# Altium footprint library MLACHL_L.PCBLIB: 254 footprints (part 12 of 16)
Each footprint in its own frame and in the unit in brackets; x right, y up, seen from the top. Pads: shape width x height; smd on the part's side, far side on the other; paste and mask are expansions set on the pad; w line width, h text height; cw(c..) or ccw(c..) is an arc to the next point about the centre after c.
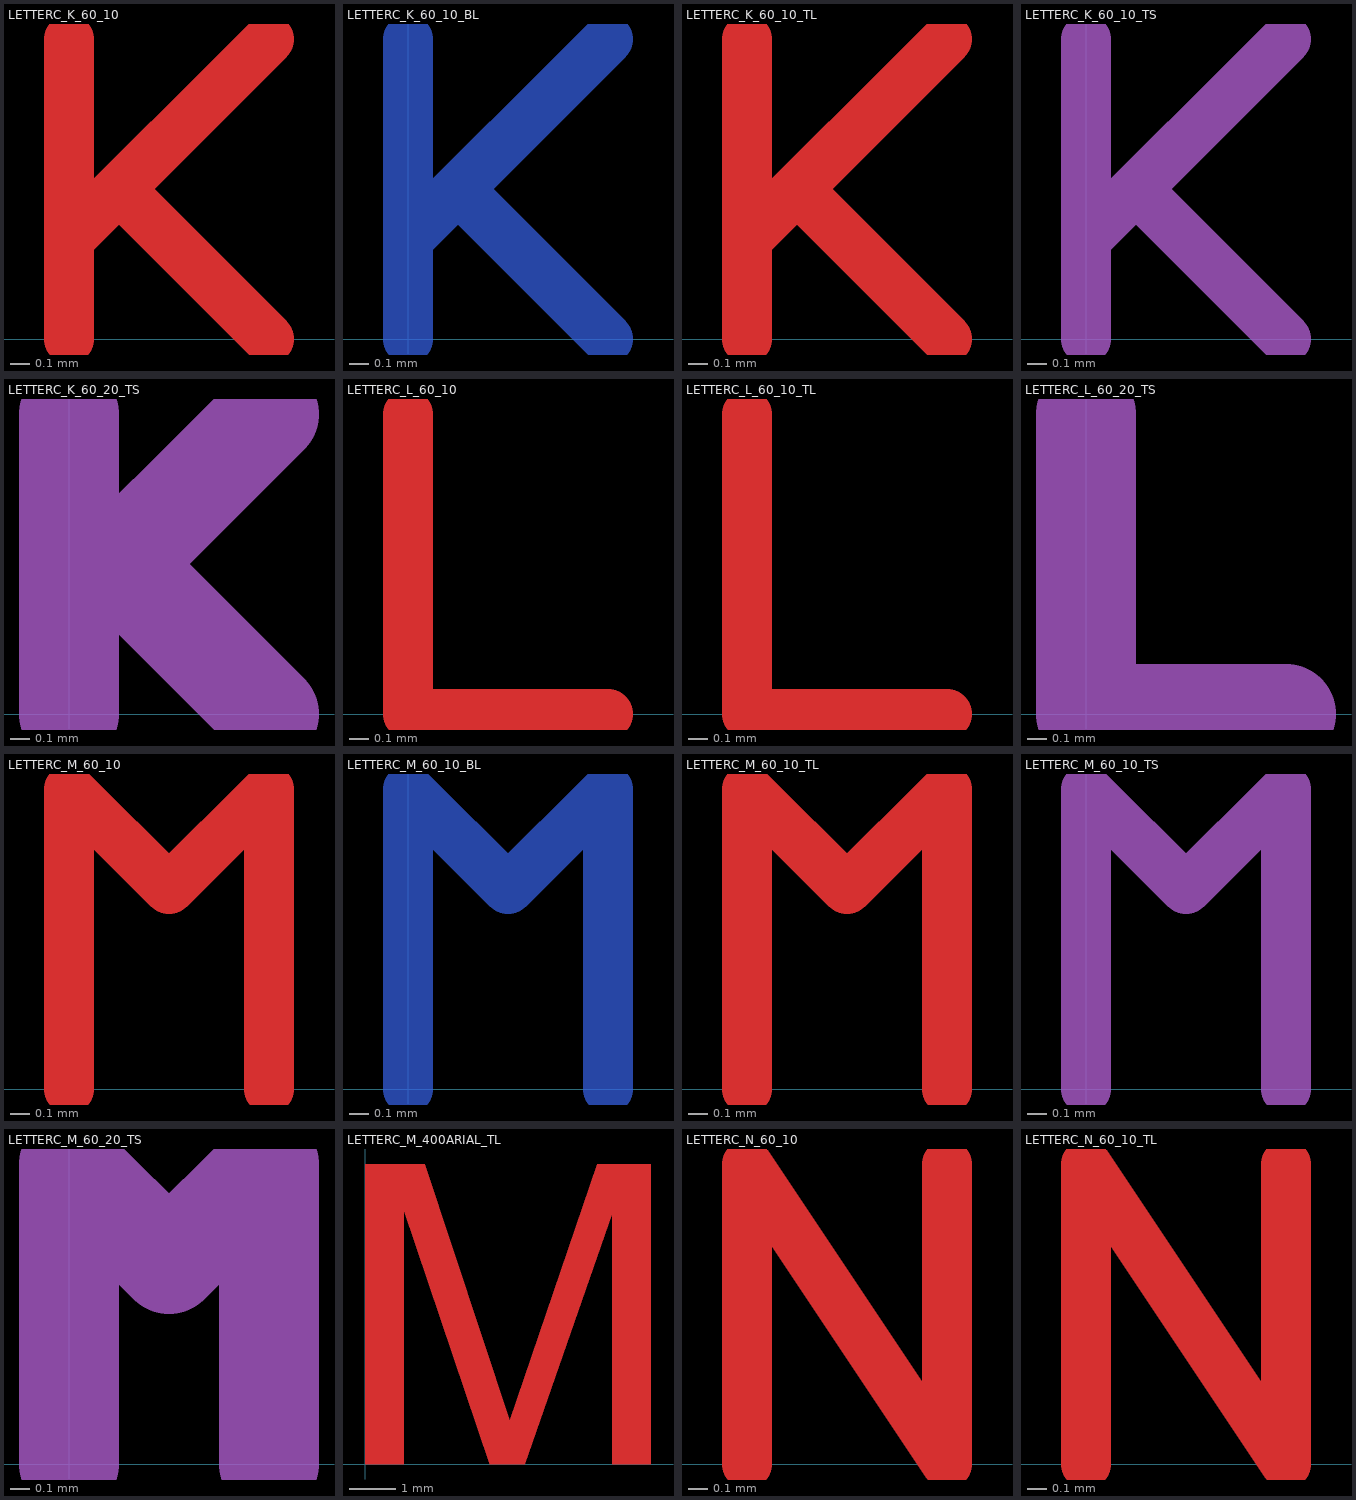
[diagram p11: the footprints below, top view; thin cyan lines are the x and y axes]

## LETTERC_K_60_10 [mm]
TopLayer:
  lines w0.254: 0,0 0,1.524 ; 0,0.508 1.016,1.524 ; 0.279,0.737 1.016,0
TopSolder:
  lines w0.508: 0,0 0,1.524 ; 0,0.508 1.016,1.524 ; 0.279,0.737 1.016,0
3D body: height 0.3, standoff 0, extent -0.127,-0.127 1.143,1.651

## LETTERC_K_60_10_BL [mm]
BottomLayer:
  lines w0.254: 0,0 0,1.524 ; 0,0.508 1.016,1.524 ; 0.279,0.737 1.016,0

## LETTERC_K_60_10_TL [mm]
TopLayer:
  lines w0.254: 0,0 0,1.524 ; 0,0.508 1.016,1.524 ; 0.279,0.737 1.016,0
3D body: height 0.3, standoff 0, extent -0.127,-0.127 1.143,1.651

## LETTERC_K_60_10_TS [mm]
TopSolder:
  lines w0.254: 0,0 0,1.524 ; 0,0.508 1.016,1.524 ; 0.279,0.737 1.016,0

## LETTERC_K_60_20_TS [mm]
TopSolder:
  lines w0.508: 0,0 0,1.524 ; 0,0.508 1.016,1.524 ; 0.279,0.737 1.016,0

## LETTERC_L_60_10 [mm]
TopLayer:
  lines w0.254: 0,1.524 0,0 1.016,0
TopSolder:
  lines w0.508: 0,1.524 0,0 1.016,0
3D body: height 0.3, standoff 0, extent -0.127,-0.127 1.143,1.651

## LETTERC_L_60_10_TL [mm]
TopLayer:
  lines w0.254: 0,1.524 0,0 1.016,0
3D body: height 0.3, standoff 0, extent -0.127,-0.127 1.143,1.651

## LETTERC_L_60_20_TS [mm]
TopSolder:
  lines w0.508: 0,1.524 0,0 1.016,0

## LETTERC_M_60_10 [mm]
TopLayer:
  lines w0.254: 0,0 0,1.524 0.508,1.016 1.016,1.524 1.016,0
TopSolder:
  lines w0.508: 0,0 0,1.524 0.508,1.016 1.016,1.524 1.016,0
3D body: height 0.3, standoff 0, extent -0.127,-0.127 1.143,1.651

## LETTERC_M_60_10_BL [mm]
BottomLayer:
  lines w0.254: 0,0 0,1.524 0.508,1.016 1.016,1.524 1.016,0

## LETTERC_M_60_10_TL [mm]
TopLayer:
  lines w0.254: 0,0 0,1.524 0.508,1.016 1.016,1.524 1.016,0
3D body: height 0.3, standoff 0, extent -0.127,-0.127 1.143,1.651

## LETTERC_M_60_10_TS [mm]
TopSolder:
  lines w0.254: 0,0 0,1.524 0.508,1.016 1.016,1.524 1.016,0

## LETTERC_M_60_20_TS [mm]
TopSolder:
  lines w0.508: 0,0 0,1.524 0.508,1.016 1.016,1.524 1.016,0

## LETTERC_M_400ARIAL_TL [mm]
TopLayer:
  region: 0,0 0.838,0 0.838,5.537 2.718,0 3.48,0 5.385,5.461 5.385,0 6.223,0 6.223,6.528 5.055,6.528 3.15,0.94 1.295,6.528 0,6.528

## LETTERC_N_60_10 [mm]
TopLayer:
  lines w0.254: 0,0 0,1.524 1.016,0 1.016,1.524
TopSolder:
  lines w0.508: 0,0 0,1.524 1.016,0 1.016,1.524
3D body: height 0.3, standoff 0, extent -0.127,-0.127 1.143,1.651

## LETTERC_N_60_10_TL [mm]
TopLayer:
  lines w0.254: 0,0 0,1.524 1.016,0 1.016,1.524
3D body: height 0.3, standoff 0, extent -0.127,-0.127 1.143,1.651